# Altium footprint library PCB1.PcbLib: 19 footprints (part 1 of 2)
Each footprint in its own frame and in the unit in brackets; x right, y up, seen from the top. Pads: shape width x height; smd on the part's side, far side on the other; paste and mask are expansions set on the pad; w line width, h text height; cw(c..) or ccw(c..) is an arc to the next point about the centre after c.
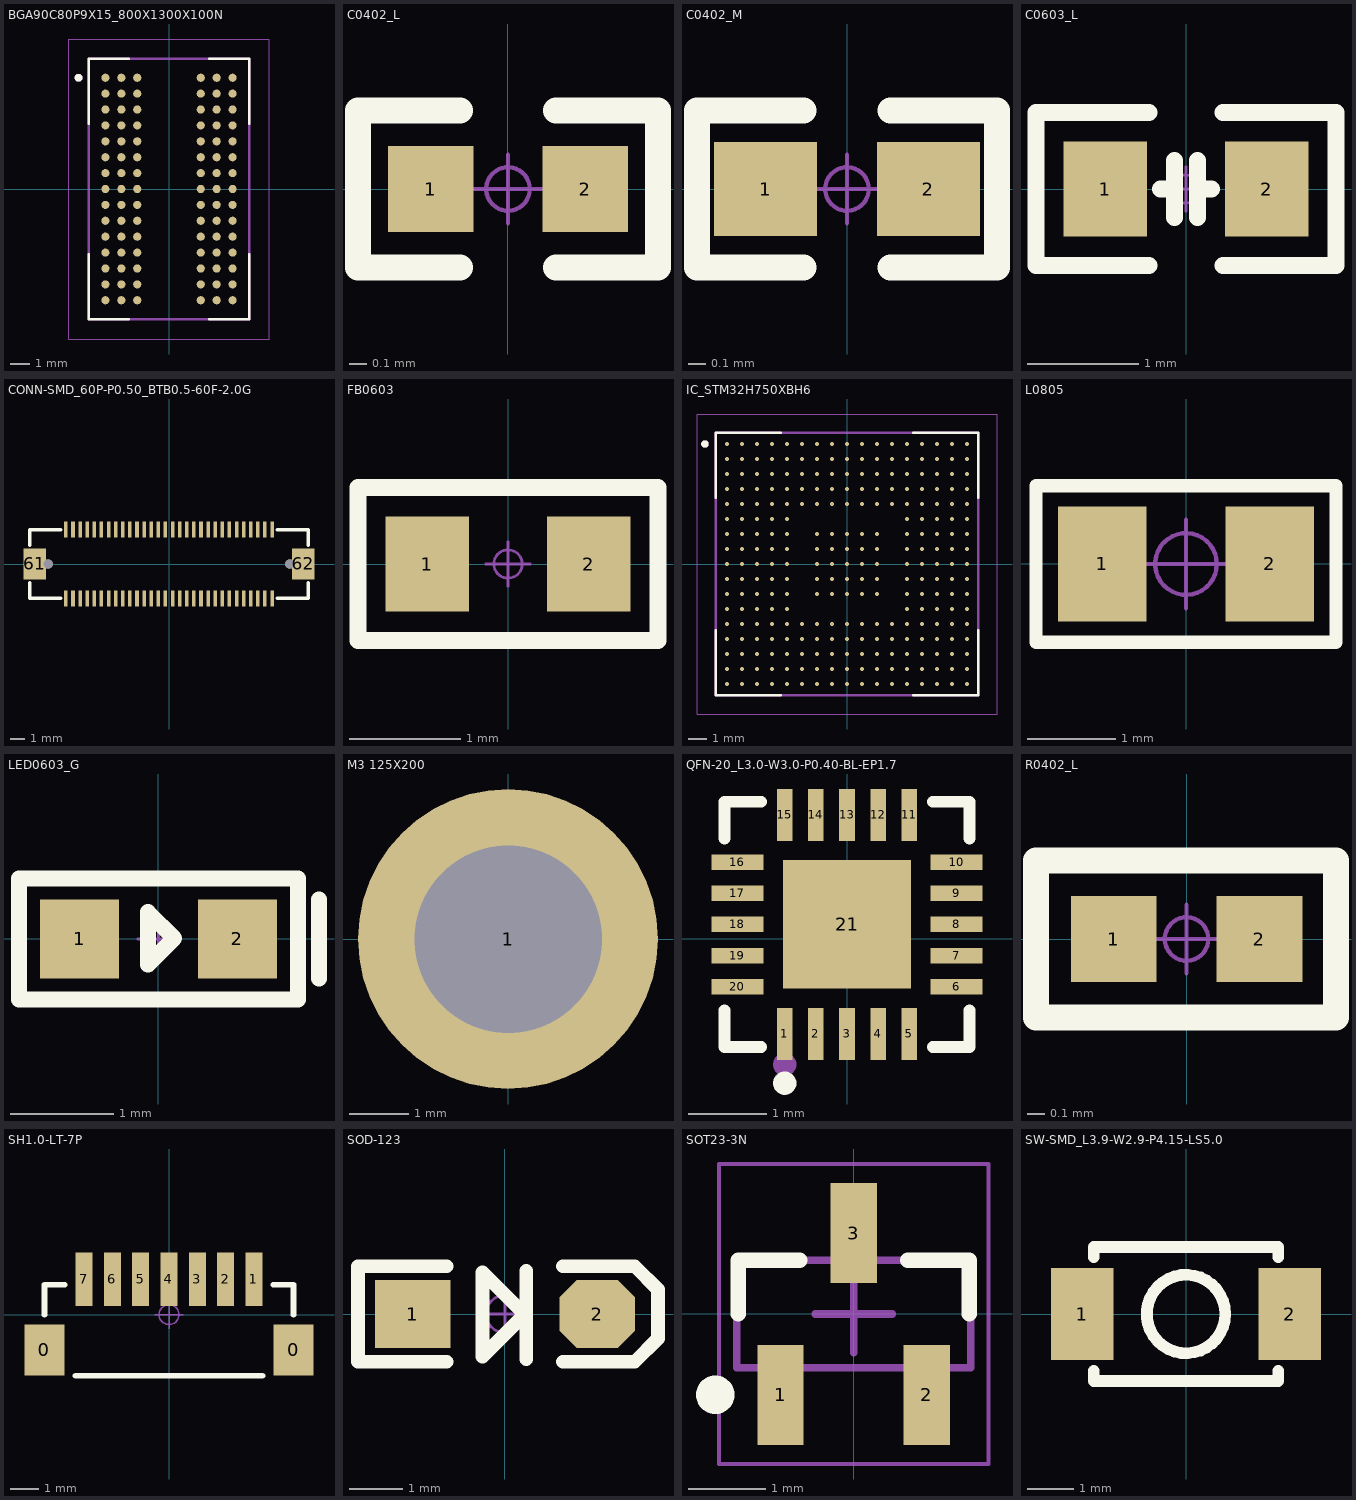
[diagram p0: the footprints below, top view; thin cyan lines are the x and y axes]

## BGA90C80P9X15_800X1300X100N [mm]
pads (90):
  round 0.41 smd: A1(-3.2,5.6) A2(-2.4,5.6) A3(-1.6,5.6) A7(1.6,5.6) A8(2.4,5.6) A9(3.2,5.6) B1(-3.2,4.8) B2(-2.4,4.8) B3(-1.6,4.8) B7(1.6,4.8) B8(2.4,4.8) B9(3.2,4.8) C1(-3.2,4) C2(-2.4,4) C3(-1.6,4) C7(1.6,4) C8(2.4,4) C9(3.2,4) D1(-3.2,3.2) D2(-2.4,3.2) D3(-1.6,3.2) D7(1.6,3.2) D8(2.4,3.2) D9(3.2,3.2) E1(-3.2,2.4) E2(-2.4,2.4) E3(-1.6,2.4) E7(1.6,2.4) E8(2.4,2.4) E9(3.2,2.4) F1(-3.2,1.6) F2(-2.4,1.6) F3(-1.6,1.6) F7(1.6,1.6) F8(2.4,1.6) F9(3.2,1.6) G1(-3.2,0.8) G2(-2.4,0.8) G3(-1.6,0.8) G7(1.6,0.8) G8(2.4,0.8) G9(3.2,0.8) H1(-3.2,0) H2(-2.4,0) H3(-1.6,0) H7(1.6,0) H8(2.4,0) H9(3.2,0) J1(-3.2,-0.8) J2(-2.4,-0.8) J3(-1.6,-0.8) J7(1.6,-0.8) J8(2.4,-0.8) J9(3.2,-0.8) K1(-3.2,-1.6) K2(-2.4,-1.6) K3(-1.6,-1.6) K7(1.6,-1.6) K8(2.4,-1.6) K9(3.2,-1.6) L1(-3.2,-2.4) L2(-2.4,-2.4) L3(-1.6,-2.4) L7(1.6,-2.4) L8(2.4,-2.4) L9(3.2,-2.4) M1(-3.2,-3.2) M2(-2.4,-3.2) M3(-1.6,-3.2) M7(1.6,-3.2) M8(2.4,-3.2) M9(3.2,-3.2) N1(-3.2,-4) N2(-2.4,-4) N3(-1.6,-4) N7(1.6,-4) N8(2.4,-4) N9(3.2,-4) P1(-3.2,-4.8) P2(-2.4,-4.8) P3(-1.6,-4.8) P7(1.6,-4.8) P8(2.4,-4.8) P9(3.2,-4.8) R1(-3.2,-5.6) R2(-2.4,-5.6) R3(-1.6,-5.6) R7(1.6,-5.6) R8(2.4,-5.6) R9(3.2,-5.6)
Top Overlay:
  circle w0.2: c-4.55,5.6 r0.1
  lines w0.127: -4.05,-3.275 -4.05,-6.55 -2.025,-6.55 ; -4.05,3.275 -4.05,6.55 -2.025,6.55 ; 2.025,-6.55 4.05,-6.55 4.05,-3.275 ; 2.025,6.55 4.05,6.55 4.05,3.275
Mechanical 13:
  circle w0.2: c-4.55,5.6 r0.1
  lines w0.127: -4.05,-6.55 -4.05,6.55 4.05,6.55 4.05,-6.55 -4.05,-6.55
Mechanical 15:
  lines w0.05: -5.05,-7.55 -5.05,7.55 5.05,7.55 5.05,-7.55 -5.05,-7.55

## C0402_L [mm]
pads (2):
  rect 0.5x0.5 smd: 1(-0.45,0) 2(0.45,0)
Top Overlay:
  lines w0.152: -0.279,-0.457 -0.875,-0.457 -0.875,0.457 -0.279,0.457 ; 0.279,-0.457 0.875,-0.457 0.875,0.457 0.279,0.457
Mechanical 15:
  circle w0.025: c0,0 r0.127
  lines w0.025: -0.2,0 0.2,0 ; 0,-0.2 0,0.2
3D body "C0402-B-2S.stp": height 0.5, standoff 0, extent -0.5,-0.25 0.5,0.25

## C0402_M [mm]
pads (2):
  rect 0.6x0.55 smd: 1(-0.475,0) 2(0.475,0)
Top Overlay:
  lines w0.152: -0.254,-0.457 -0.875,-0.457 -0.875,0.457 -0.254,0.457 ; 0.254,-0.457 0.875,-0.457 0.875,0.457 0.254,0.457
Mechanical 15:
  circle w0.025: c0,0 r0.127
  lines w0.025: -0.2,0 0.2,0 ; 0,-0.2 0,0.2
3D body "C0402-B-2S.stp": height 0.5, standoff 0, extent -0.5,-0.25 0.5,0.25

## C0603_L [mm]
pads (2):
  rect 0.75x0.85 smd: 1(-0.725,0) 2(0.725,0)
Top Overlay:
  lines w0.152: -0.33,-0.686 -1.346,-0.686 -1.346,0.686 -0.33,0.686 ; -0.229,0 -0.102,0 ; -0.102,-0.254 -0.102,0.254 ; 0.102,-0.254 0.102,0.254 ; 0.102,0 0.229,0 ; 0.33,-0.686 1.346,-0.686 1.346,0.686 0.33,0.686
Mechanical 15:
  circle w0.025: c0,0 r0.127
  lines w0.025: -0.2,0 0.2,0 ; 0,-0.2 0,0.2
3D body "C0603H08-2S.stp": height 0.8, standoff 0, extent -0.8,-0.4 0.8,0.4

## CONN-SMD_60P-P0.50_BTB0.5-60F-2.0G [mm]
pads (64):
  rect 0.25x1.15 smd paste+0 mask+0.051: 1(-7.25,-2.425) 2(-7.25,2.425) 3(-6.75,-2.425) 4(-6.75,2.425) 5(-6.25,-2.425) 6(-6.25,2.425) 7(-5.75,-2.425) 8(-5.75,2.425) 9(-5.25,-2.425) 10(-5.25,2.425) 11(-4.75,-2.425) 12(-4.75,2.425) 13(-4.25,-2.425) 14(-4.25,2.425) 15(-3.75,-2.425) 16(-3.75,2.425) 17(-3.25,-2.425) 18(-3.25,2.425) 19(-2.75,-2.425) 20(-2.75,2.425) 21(-2.25,-2.425) 22(-2.25,2.425) 23(-1.75,-2.425) 24(-1.75,2.425) 25(-1.25,-2.425) 26(-1.25,2.425) 27(-0.75,-2.425) 28(-0.75,2.425) 29(-0.25,-2.425) 30(-0.25,2.425) 31(0.25,-2.425) 32(0.25,2.425) 33(0.75,-2.425) 34(0.75,2.425) 35(1.25,-2.425) 36(1.25,2.425) 37(1.75,-2.425) 38(1.75,2.425) 39(2.25,-2.425) 40(2.25,2.425) 41(2.75,-2.425) 42(2.75,2.425) 43(3.25,-2.425) 44(3.25,2.425) 45(3.75,-2.425) 46(3.75,2.425) 47(4.25,-2.425) 48(4.25,2.425) 49(4.75,-2.425) 50(4.75,2.425) 51(5.25,-2.425) 52(5.25,2.425) 53(5.75,-2.425) 54(5.75,2.425) 55(6.25,-2.425) 56(6.25,2.425) 57(6.75,-2.425) 58(6.75,2.425) 59(7.25,-2.425) 60(7.25,2.425)
  rect 1.6x2.2 smd paste+0 mask+0.051: 61(-9.45,0) 62(9.45,0)
  round 0.65 hole 0.65 unplated paste+0: ""(-8.5,0) ""(8.5,0)
Top Overlay:
  lines w0.254: -9.8,-1.331 -9.8,-2.4 -7.606,-2.4 ; -9.8,1.331 -9.8,2.4 -9.5,2.4 ; -9.7,2.4 -7.606,2.4 ; 7.606,-2.4 9.8,-2.4 9.8,-1.331 ; 7.606,2.4 9.8,2.4 9.8,1.331
Mechanical 15:
  circle w0.25: c-8.5,0 r0.125
  circle w0.25: c8.5,0 r0.125

## FB0603 [mm]
pads (2):
  rect 0.75x0.85 smd: 1(-0.725,0) 2(0.725,0)
Top Overlay:
  lines w0.152: -1.346,-0.686 -1.346,0.686 1.346,0.686 1.346,-0.686 -1.346,-0.686
Mechanical 15:
  circle w0.025: c0,0 r0.127
  lines w0.025: -0.2,0 0.2,0 ; 0,-0.2 0,0.2
3D body "L0603H08-2S.stp": height 0.8, standoff 0, extent -0.8,-0.4 0.8,0.4

## IC_STM32H750XBH6 [mm]
pads (265):
  round 0.225 smd paste+0.012 mask+0.032: A1(-6.4,6.4) A2(-5.6,6.4) A3(-4.8,6.4) A4(-4,6.4) A5(-3.2,6.4) A6(-2.4,6.4) A7(-1.6,6.4) A8(-0.8,6.4) A9(0,6.4) A10(0.8,6.4) A11(1.6,6.4) A12(2.4,6.4) A13(3.2,6.4) A14(4,6.4) A15(4.8,6.4) A16(5.6,6.4) A17(6.4,6.4) B1(-6.4,5.6) B2(-5.6,5.6) B3(-4.8,5.6) B4(-4,5.6) B5(-3.2,5.6) B6(-2.4,5.6) B7(-1.6,5.6) B8(-0.8,5.6) B9(0,5.6) B10(0.8,5.6) B11(1.6,5.6) B12(2.4,5.6) B13(3.2,5.6) B14(4,5.6) B15(4.8,5.6) B16(5.6,5.6) B17(6.4,5.6) C1(-6.4,4.8) C2(-5.6,4.8) C3(-4.8,4.8) C4(-4,4.8) C5(-3.2,4.8) C6(-2.4,4.8) C7(-1.6,4.8) C8(-0.8,4.8) C9(0,4.8) C10(0.8,4.8) C11(1.6,4.8) C12(2.4,4.8) C13(3.2,4.8) C14(4,4.8) C15(4.8,4.8) C16(5.6,4.8) C17(6.4,4.8) D1(-6.4,4) D2(-5.6,4) D3(-4.8,4) D4(-4,4) D5(-3.2,4) D6(-2.4,4) D7(-1.6,4) D8(-0.8,4) D9(0,4) D10(0.8,4) D11(1.6,4) D12(2.4,4) D13(3.2,4) D14(4,4) D15(4.8,4) D16(5.6,4) D17(6.4,4) E1(-6.4,3.2) E2(-5.6,3.2) E3(-4.8,3.2) E4(-4,3.2) E5(-3.2,3.2) E6(-2.4,3.2) E7(-1.6,3.2) E8(-0.8,3.2) E9(0,3.2) E10(0.8,3.2) E11(1.6,3.2) E12(2.4,3.2) E13(3.2,3.2) E14(4,3.2) E15(4.8,3.2) E16(5.6,3.2) E17(6.4,3.2) F1(-6.4,2.4) F2(-5.6,2.4) F3(-4.8,2.4) F4(-4,2.4) F5(-3.2,2.4) F13(3.2,2.4) F14(4,2.4) F15(4.8,2.4) F16(5.6,2.4) F17(6.4,2.4) G1(-6.4,1.6) G2(-5.6,1.6) G3(-4.8,1.6) G4(-4,1.6) G5(-3.2,1.6) G7(-1.6,1.6) G8(-0.8,1.6) G9(0,1.6) G10(0.8,1.6) G11(1.6,1.6) G13(3.2,1.6) G14(4,1.6) G15(4.8,1.6) G16(5.6,1.6) G17(6.4,1.6) H1(-6.4,0.8) H2(-5.6,0.8) H3(-4.8,0.8) H4(-4,0.8) H5(-3.2,0.8) H7(-1.6,0.8) H8(-0.8,0.8) H9(0,0.8) H10(0.8,0.8) H11(1.6,0.8) H13(3.2,0.8) H14(4,0.8) H15(4.8,0.8) H16(5.6,0.8) H17(6.4,0.8) J1(-6.4,0) J2(-5.6,0) J3(-4.8,0) J4(-4,0) J5(-3.2,0) J7(-1.6,0) J8(-0.8,0) J9(0,0) J10(0.8,0) J11(1.6,0) J13(3.2,0) J14(4,0) J15(4.8,0) J16(5.6,0) J17(6.4,0) K1(-6.4,-0.8) K2(-5.6,-0.8) K3(-4.8,-0.8) K4(-4,-0.8) K5(-3.2,-0.8) K7(-1.6,-0.8) K8(-0.8,-0.8) K9(0,-0.8) K10(0.8,-0.8) K11(1.6,-0.8) K13(3.2,-0.8) K14(4,-0.8) K15(4.8,-0.8) K16(5.6,-0.8) K17(6.4,-0.8) L1(-6.4,-1.6) L2(-5.6,-1.6) L3(-4.8,-1.6) L4(-4,-1.6) L5(-3.2,-1.6) L7(-1.6,-1.6) L8(-0.8,-1.6) L9(0,-1.6) L10(0.8,-1.6) L11(1.6,-1.6) L13(3.2,-1.6) L14(4,-1.6) L15(4.8,-1.6) L16(5.6,-1.6) L17(6.4,-1.6) M1(-6.4,-2.4) M2(-5.6,-2.4) M3(-4.8,-2.4) M4(-4,-2.4) M5(-3.2,-2.4) M13(3.2,-2.4) M14(4,-2.4) M15(4.8,-2.4) M16(5.6,-2.4) M17(6.4,-2.4) N1(-6.4,-3.2) N2(-5.6,-3.2) N3(-4.8,-3.2) N4(-4,-3.2) N5(-3.2,-3.2) N6(-2.4,-3.2) N7(-1.6,-3.2) N8(-0.8,-3.2) N9(0,-3.2) N10(0.8,-3.2) N11(1.6,-3.2) N12(2.4,-3.2) N13(3.2,-3.2) N14(4,-3.2) N15(4.8,-3.2) N16(5.6,-3.2) N17(6.4,-3.2) P1(-6.4,-4) P2(-5.6,-4) P3(-4.8,-4) P4(-4,-4) P5(-3.2,-4) P6(-2.4,-4) P7(-1.6,-4) P8(-0.8,-4) P9(0,-4) P10(0.8,-4) P11(1.6,-4) P12(2.4,-4) P13(3.2,-4) P14(4,-4) P15(4.8,-4) P16(5.6,-4) P17(6.4,-4) R1(-6.4,-4.8) R2(-5.6,-4.8) R3(-4.8,-4.8) R4(-4,-4.8) R5(-3.2,-4.8) R6(-2.4,-4.8) R7(-1.6,-4.8) R8(-0.8,-4.8) R9(0,-4.8) R10(0.8,-4.8) R11(1.6,-4.8) R12(2.4,-4.8) R13(3.2,-4.8) R14(4,-4.8) R15(4.8,-4.8) R16(5.6,-4.8) R17(6.4,-4.8) T1(-6.4,-5.6) T2(-5.6,-5.6) T3(-4.8,-5.6) T4(-4,-5.6) T5(-3.2,-5.6) T6(-2.4,-5.6) T7(-1.6,-5.6) T8(-0.8,-5.6) T9(0,-5.6) T10(0.8,-5.6) T11(1.6,-5.6) T12(2.4,-5.6) T13(3.2,-5.6) T14(4,-5.6) T15(4.8,-5.6) T16(5.6,-5.6) T17(6.4,-5.6) U1(-6.4,-6.4) U2(-5.6,-6.4) U3(-4.8,-6.4) U4(-4,-6.4) U5(-3.2,-6.4) U6(-2.4,-6.4) U7(-1.6,-6.4) U8(-0.8,-6.4) U9(0,-6.4) U10(0.8,-6.4) U11(1.6,-6.4) U12(2.4,-6.4) U13(3.2,-6.4) U14(4,-6.4) U15(4.8,-6.4) U16(5.6,-6.4) U17(6.4,-6.4)
Top Overlay:
  circle w0.2: c-7.575,6.4 r0.1
  lines w0.127: -7,-3.538 -7,-7 -3.538,-7 ; -7,3.538 -7,7 -3.538,7 ; 3.538,-7 7,-7 7,-3.538 ; 3.538,7 7,7 7,3.538
Mechanical 13:
  circle w0.2: c-7.575,6.4 r0.1
  lines w0.127: -7,-7 7,-7 7,7 -7,7 -7,-7
Mechanical 15:
  lines w0.05: -8,-8 8,-8 8,8 -8,8 -8,-8
3D body "step_temp.STEP": height 1.1, standoff 0, extent -7,-7 7,7

## L0805 [mm]
height 0.5
pads (2):
  rect 1x1.3 smd: 1(-0.95,0) 2(0.95,0)
Top Overlay:
  lines w0.152: -1.702,-0.889 -1.702,0.889 1.702,0.889 1.702,-0.889 -1.702,-0.889
Mechanical 15:
  circle w0.05: c0,0 r0.35
  lines w0.05: -0.5,0 0.5,0 ; 0,-0.5 0,0.5
3D body "L0805H13-2S.stp": height 1.3, standoff 0, extent -1,-0.65 1,0.65

## LED0603_G [mil]
pads (2):
  rect 30x30 smd: 1(-30,0) 2(30,0)
Top Overlay:
  lines w6: 61,-15 61,15 ; -53,-23 -53,23 53,23 53,-23 -53,-23 ; -4,-9.75 6,0.25 -4,10.25 -4,-9.75
Mechanical 15:
  circle w1: c0,0 r5
  lines w1: -7.87,0 7.87,0 ; 0,-7.87 0,7.87
3D body "LED_0603-G(1).STEP": height 18.36, standoff -0.04, extent -31.5,-15.79 31.5,15.79
3D body "LED 0603玻璃罩.": height 0, standoff 0, extent 0,0 0,0

## M3 125X200 [mm]
pads (1):
  round 5.08 hole 3.175: 1(0,0)

## QFN-20_L3.0-W3.0-P0.40-BL-EP1.7 [mm]
pads (21):
  rect 0.2x0.665 smd paste-100 mask+0.051: 1(-0.8,-1.22) 2(-0.4,-1.22) 3(0,-1.22) 4(0.4,-1.22) 5(0.8,-1.22) 11(0.8,1.595) 12(0.4,1.595) 13(0,1.595) 14(-0.4,1.595) 15(-0.8,1.595)
  rect 0.665x0.2 smd paste-100 mask+0.051: 6(1.407,-0.612) 7(1.407,-0.212) 8(1.407,0.188) 9(1.407,0.588) 10(1.407,0.988) 16(-1.407,0.988) 17(-1.407,0.588) 18(-1.407,0.188) 19(-1.407,-0.212) 20(-1.407,-0.612)
  rect 1.65x1.65 smd paste-100 mask+0.051: 21(0,0.188)
Top Overlay:
  circle w0.15: c-0.8,-1.853 r0.075
  lines w0.152: -1.576,-0.915 -1.576,-1.389 -1.103,-1.389 ; -1.576,1.29 -1.576,1.764 -1.103,1.764 ; 1.103,-1.389 1.576,-1.389 1.576,-0.915 ; 1.103,1.764 1.576,1.764 1.576,1.29
Top Paste:
  region: -0.66,0.848 0.66,0.848 0.66,-0.472 -0.66,-0.472
  region: -0.9,-0.887 -0.7,-0.887 -0.7,-1.552 -0.9,-1.552
  region: -0.5,-0.887 -0.3,-0.887 -0.3,-1.552 -0.5,-1.552
  region: -0.1,-0.887 0.1,-0.887 0.1,-1.552 -0.1,-1.552
  region: 0.3,-0.887 0.5,-0.887 0.5,-1.552 0.3,-1.552
  region: 0.7,-0.887 0.9,-0.887 0.9,-1.552 0.7,-1.552
  region: 1.075,-0.513 1.74,-0.513 1.74,-0.713 1.075,-0.713
  region: 1.075,-0.113 1.74,-0.113 1.74,-0.313 1.075,-0.313
  region: 1.075,0.288 1.74,0.288 1.74,0.088 1.075,0.088
  region: 1.075,0.688 1.74,0.688 1.74,0.488 1.075,0.488
  region: 1.075,1.088 1.74,1.088 1.74,0.888 1.075,0.888
  region: 0.7,1.927 0.9,1.927 0.9,1.262 0.7,1.262
  region: 0.3,1.927 0.5,1.927 0.5,1.262 0.3,1.262
  region: -0.1,1.927 0.1,1.927 0.1,1.262 -0.1,1.262
  region: -0.5,1.927 -0.3,1.927 -0.3,1.262 -0.5,1.262
  region: -0.9,1.927 -0.7,1.927 -0.7,1.262 -0.9,1.262
  region: -1.74,1.088 -1.075,1.088 -1.075,0.888 -1.74,0.888
  region: -1.74,0.688 -1.075,0.688 -1.075,0.488 -1.74,0.488
  region: -1.74,0.288 -1.075,0.288 -1.075,0.088 -1.74,0.088
  region: -1.74,-0.113 -1.075,-0.113 -1.075,-0.313 -1.74,-0.313
  region: -1.74,-0.513 -1.075,-0.513 -1.075,-0.713 -1.74,-0.713
Mechanical 15:
  circle w0.15: c-0.8,-1.613 r0.075

## R0402_L [mm]
pads (2):
  rect 0.5x0.5 smd: 1(-0.425,0) 2(0.425,0)
Top Overlay:
  lines w0.152: -0.878,-0.457 0.872,-0.457 0.872,0.457 -0.878,0.457 -0.878,-0.457
Mechanical 15:
  circle w0.025: c0,0 r0.127
  lines w0.025: -0.2,0 0.2,0 ; 0,-0.2 0,0.2
3D body "R0402.STEP": height 0.3, standoff 0, extent -0.5,-0.25 0.5,0.25

## SH1.0-LT-7P [mm]
pads (9):
  rect 1.4x1.8 smd: 0(-4.401,-1.249) 0(4.401,-1.251)
  rect 0.6x1.9 smd: 1(2.999,1.251) 2(1.999,1.251) 3(0.999,1.251) 4(-0.001,1.251) 5(-1.001,1.251) 6(-2.001,1.251) 7(-3.001,1.251)
Top Overlay:
  lines w0.2: -4.401,0 -4.401,1.051 -3.683,1.051 ; -3.302,-2.159 3.302,-2.159 ; 3.683,1.049 4.401,1.049 4.401,0
Mechanical 15:
  circle w0.05: c0,0 r0.35
  lines w0.05: -0.5,0 0.5,0 ; 0,-0.5 0,0.5
3D body "SH1.0-LT-7P.STEP": height 4.25, standoff 0, extent -4.5,-2.032 4.5,1.568

## SOD-123 [mil]
pads (2):
  rect 55x50 smd: 1(-67.5,0)
  oct 55x50 smd: 2(67.5,0)
Top Overlay:
  lines w10: -42.5,-35 -107.5,-35 -107.5,35 -42.5,35 ; 14,-0.8 -16.4,-31.2 -16.4,30.5 15.6,-1.5 ; 15.6,-33.1 15.6,31.7 ; 42.5,-35 95,-35 112,-18 112,18 95,35 42.5,35
Mechanical 15:
  circle w1.97: c0,0 r13.78
  lines w1.97: -19.68,0 19.68,0 ; 0,-19.68 0,19.68
3D body "SOD-123.stp": height 50, standoff 1.97, extent -72.84,-31.5 72.83,31.49

## SOT23-3N [mm]
height 1.12
pads (3):
  rect 0.6x1.3 smd: 1(-0.95,-1.05) 2(0.95,-1.05) 3(0,1.05)
Top Overlay:
  circle w0.25: c-1.8,-1.05 r0.125
  lines w0.2: -1.5,0 -1.5,0.7 -0.7,0.7 ; 0.7,0.7 1.5,0.7 1.5,0
Mechanical 13:
  lines w0.1: -1.52,-0.7 -1.52,0.7 1.52,0.7 1.52,-0.7 -1.52,-0.7
Mechanical 15:
  lines w0.05: -1.75,-1.95 -1.75,1.95 1.75,1.95 1.75,-1.95 -1.75,-1.95
  lines w0.1: -0.5,0 0.5,0 ; 0,-0.5 0,0.5
3D body "SOT23-3.STEP": height 1.05, standoff 0, extent -1.5,-1.2 1.5,1.2

## SW-SMD_L3.9-W2.9-P4.15-LS5.0 [mm]
pads (2):
  rect 1.35x2 smd paste+0 mask+0.051: 1(-2.25,0) 2(2.25,0)
Top Overlay:
  circle w0.254: c0,0 r0.85
  lines w0.254: -2,-1.231 -2,-1.45 2,-1.45 2,-1.231 ; -2,1.231 -2,1.45 2,1.45 2,1.231